# EAGLE library part XF3M-CONNECTOR (library digikey)
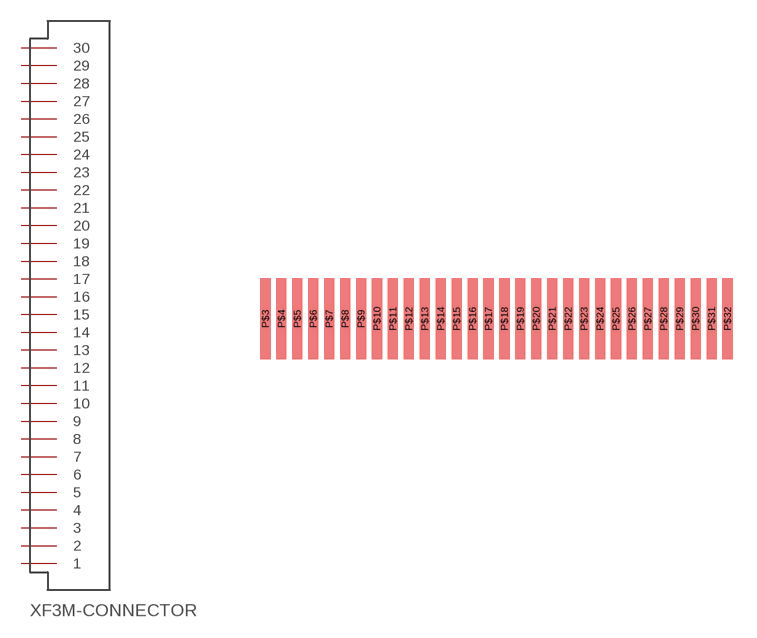
[diagram p4: symbol with the pads of FPC_30P_1MM_CONN; footprint FPC_30P_1MM_CONN]

Designator prefix -

## XF3M-CONNECTOR  [FPC_30P_1MM_CONN]
P$3  1
P$4  2
P$5  3
P$6  4
P$7  5
P$8  6
P$9  7
P$10  8
P$11  9
P$12  10
P$13  11
P$14  12
P$15  13
P$16  14
P$17  15
P$18  16
P$19  17
P$20  18
P$21  19
P$22  20
P$23  21
P$24  22
P$25  23
P$26  24
P$27  25
P$28  26
P$29  27
P$30  28
P$31  29
P$32  30

## Footprint FPC_30P_1MM_CONN (pad centres in mm)
smd 0.635 x 5.08: P$3 -13.74,-2.93; P$4 -12.74,-2.93; P$5 -11.74,-2.93; P$6 -10.74,-2.93; P$7 -9.74,-2.93; P$8 -8.74,-2.93; P$9 -7.74,-2.93; P$10 -6.74,-2.93; P$11 -5.74,-2.93; P$12 -4.74,-2.93; P$13 -3.74,-2.93; P$14 -2.74,-2.93; P$15 -1.74,-2.93; P$16 -0.74,-2.93; P$17 0.26,-2.93; P$18 1.26,-2.93; P$19 2.26,-2.93; P$20 3.26,-2.93; P$21 4.26,-2.93; P$22 5.26,-2.93; P$23 6.26,-2.93; P$24 7.26,-2.93; P$25 8.26,-2.93; P$26 9.26,-2.93; P$27 10.26,-2.93; P$28 11.26,-2.93; P$29 12.26,-2.93; P$30 13.26,-2.93; P$31 14.26,-2.93; P$32 15.26,-2.93